# Altium integrated library TC33X-2-102E.IntLib: 1 symbol
Pins are listed as number, name and electrical type; pins without a type are passive.

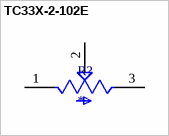
[diagram p0: symbol TC33X-2-102E]

## TC33X-2-102E
designator R?
1 kOhms 0.1W, 1/10W J Lead Surface Mount Trimmer Potentiometer Cermet 1 Turn Top Adjustment; MF: Bourns; MP: TC33X-2-102E; Purchase-URL: https://pricing.snapeda.com/search/part/TC33X-2-102E/?ref=eda; Digi-Key_Part_Number: TC33X-102ECT-ND; Check_prices: https://www.snapeda.com/parts/TC33X-2-102E/Bourns/view-part/421910/?ref=eda; Value: *; Package: 1608 Bourns; SnapEDA_Link: https://www.snapeda.com/parts/TC33X-2-102E/Bourns/view-part/421910/?ref=snap
footprint TRIM_TC33X-2-102E
pins: 1 CCW, 2 W, 3 CW